# EAGLE library part TPS2044BDR (library Programming_interface_lib)
Quad Current-Limited Power Distribution Switches Source: Datasheet <http://www.ti.com/lit/gpn/tps2044b>
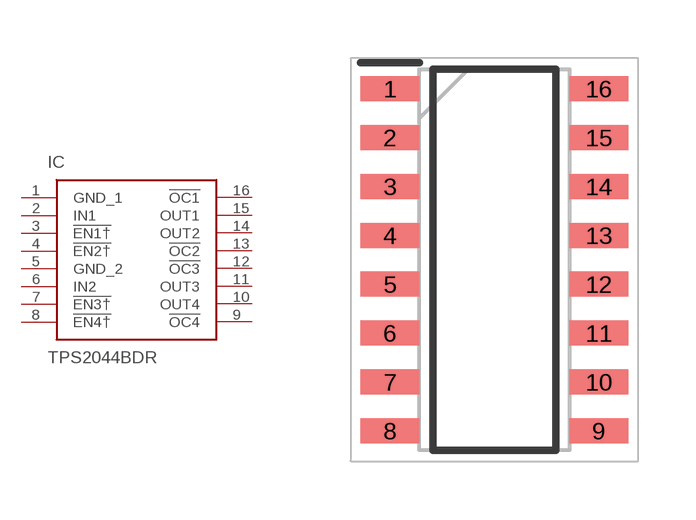
[diagram p2: symbol with the pads of SOIC127P600X175-16N; footprint SOIC127P600X175-16N]

Designator prefix IC

## TPS2044BDR (DESCRIPTION: Quad Current-Limited Power Distribution Switches; HEIGHT: 1.75mm; MANUFACTURER_NAME: Texas Instruments; MANUFACTURER_PART_NUMBER: TPS2044BDR)  [SOIC127P600X175-16N]
1  GND_1
2  IN1
3  !EN1†
4  !EN2†
5  GND_2
6  IN2
7  !EN3†
8  !EN4†
9  !OC4
10  OUT4
11  OUT3
12  !OC3
13  !OC2
14  OUT2
15  OUT1
16  !OC1

## Footprint SOIC127P600X175-16N (pad centres in mm)
soic-D
smd 1.525 x 0.65: 1 -2.712,4.445; 2 -2.712,3.175; 3 -2.712,1.905; 4 -2.712,0.635; 5 -2.712,-0.635; 6 -2.712,-1.905; 7 -2.712,-3.175; 8 -2.712,-4.445; 9 2.712,-4.445; 10 2.712,-3.175; 11 2.712,-1.905; 12 2.712,-0.635; 13 2.712,0.635; 14 2.712,1.905; 15 2.712,3.175; 16 2.712,4.445